# Altium schematic symbol library Components - 03.07.24 - 08.04.SchLib: 1 symbol
Pins are listed as number, name and electrical type; pins without a type are passive.

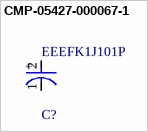
[diagram p0: symbol CMP-05427-000067-1]

## CMP-05427-000067-1
designator C?, comment EEEFK1J101P
CAP ALUM 100UF 20% 63V SMD; Material: Aluminium; ESR (Equivalent Series Resistance): 350mR; Life (Hours): 2000Hour; Ripple Current (AC): 400mA; Leakage Current: 3uA; Polarity: Polar; Lead Free: Lead Free; Impedance: 350mR; Packaging: Tape and Reel; Voltage Rating (DC): 63V; Construction: Cylindrical; Ripple Current: 400mA; Min Operating Temperature: -55°C; RoHS Compliant: Yes; Dielectric Material: Aluminium; Termination: SMD/SMT; REACH SVHC: No SVHC; Mount: Surface Mount; Radiation Hardening: No; Width: 12mm; Voltage Rating: 63V; Length: 10.2mm; Voltage: 63V; Tolerance: 20%; Series: FK; Diameter: 10mm; Height: 10.2mm; Max Operating Temperature: 105°C; Capacitance: 100uF; Height - Seated (Max): 0.413inch; Case/Package: Radial; Package Quantity: 1; Contact Plating: Tin
footprint FP-FKG-MFG
pins: 1 C, 2 A
text: +